# Altium footprint library C&K_PTS525SM15SMTR2 LFS.PcbLib: 1 footprints
Each footprint in its own frame and in the unit in brackets; x right, y up, seen from the top. Pads: shape width x height; smd on the part's side, far side on the other; paste and mask are expansions set on the pad; w line width, h text height; cw(c..) or ccw(c..) is an arc to the next point about the centre after c.
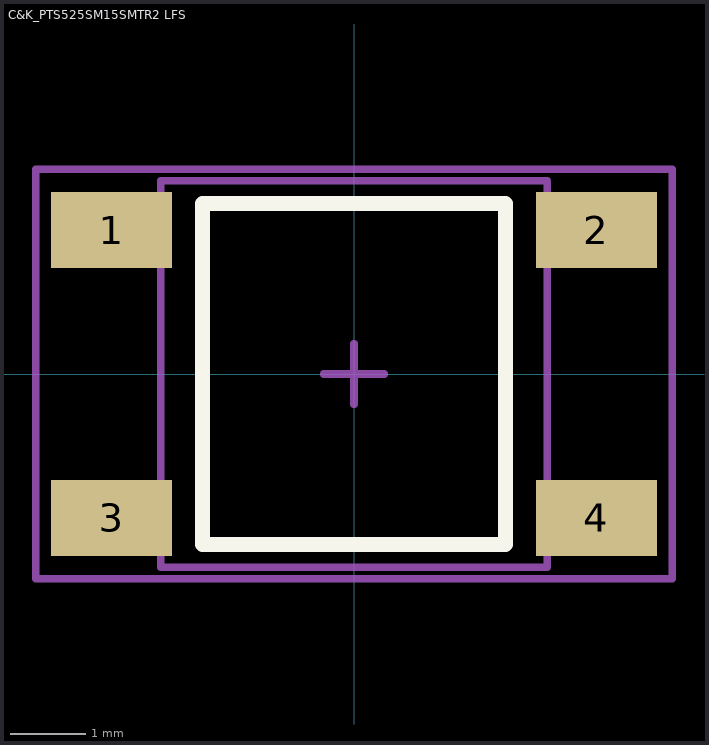
[diagram p0: the footprint, top view; thin cyan lines are the x and y axes]

## C&K_PTS525SM15SMTR2 LFS [mm] "C&K_PTS525SM15SMTR2 LFS"
height 1.6
pads (4):
  rect 1.6x1 smd mask+0.05: 1(-3.2,1.9) 2(3.2,1.9) 3(-3.2,-1.9) 4(3.2,-1.9)
Top Overlay:
  lines w0.2: -2,-2.25 2,-2.25 2,2.25 -2,2.25 -2,-2.25
Mechanical 13:
  lines w0.1: -2.55,-2.55 2.55,-2.55 2.55,2.55 -2.55,2.55 -2.55,-2.55
Mechanical 15:
  lines w0.1: -0.4,0 0.4,0 ; 0,-0.4 0,0.4 ; -4.2,-2.7 4.2,-2.7 4.2,2.7 -4.2,2.7 -4.2,-2.7
3D body "C&K_PTS525SM15SMTR2 LFS.step": height 1.6, standoff 0, extent -3.2,-2.55 3.2,2.55